# EAGLE library part POTI_DIGI_TWI_2X (library robo_ag)
Digitales Potentiometer Reichelt:DS 1803 Z-010 3-5V 256 Steps 10k TWI
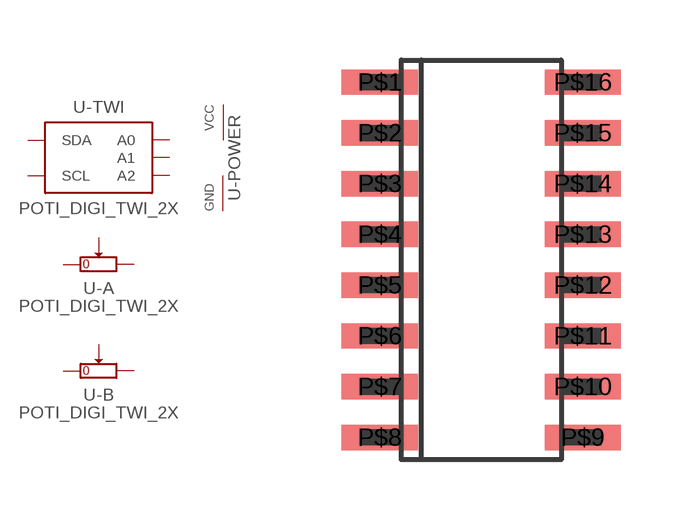
[diagram p10: symbol with the pads of IC_SOIC16; footprint IC_SOIC16]

Designator prefix -; gates -POWER=POWER -TWI=TWI -A=POTI -B=POTI

## POTI_DIGI_TWI_2X  [IC_SOIC16]
P$1  -B:HIGH  pas
P$3  -B:LOW  pas
P$4  -B:WIPE  pas
P$5  -TWI:A2  in
P$6  -TWI:A1  in
P$7  -TWI:A0  in
P$8  -POWER:GND  pwr
P$9  -TWI:SCL
P$10  -TWI:SDA
P$12  -A:WIPE  pas
P$13  -A:LOW  pas
P$14  -A:HIGH  pas
P$16  -POWER:VCC  pwr

## Footprint IC_SOIC16 (pad centres in mm)
smd 1.905 x 0.635: P$1 -2.54,4.445; P$2 -2.54,3.175; P$3 -2.54,1.905; P$4 -2.54,0.635; P$5 -2.54,-0.635; P$6 -2.54,-1.905; P$7 -2.54,-3.175; P$8 -2.54,-4.445; P$9 2.54,-4.445; P$10 2.54,-3.175; P$11 2.54,-1.905; P$12 2.54,-0.635; P$13 2.54,0.635; P$14 2.54,1.905; P$15 2.54,3.175; P$16 2.54,4.445